# Altium footprint library mini.PcbLib: 3 footprints
Each footprint in its own frame and in the unit in brackets; x right, y up, seen from the top. Pads: shape width x height; smd on the part's side, far side on the other; paste and mask are expansions set on the pad; w line width, h text height; cw(c..) or ccw(c..) is an arc to the next point about the centre after c.
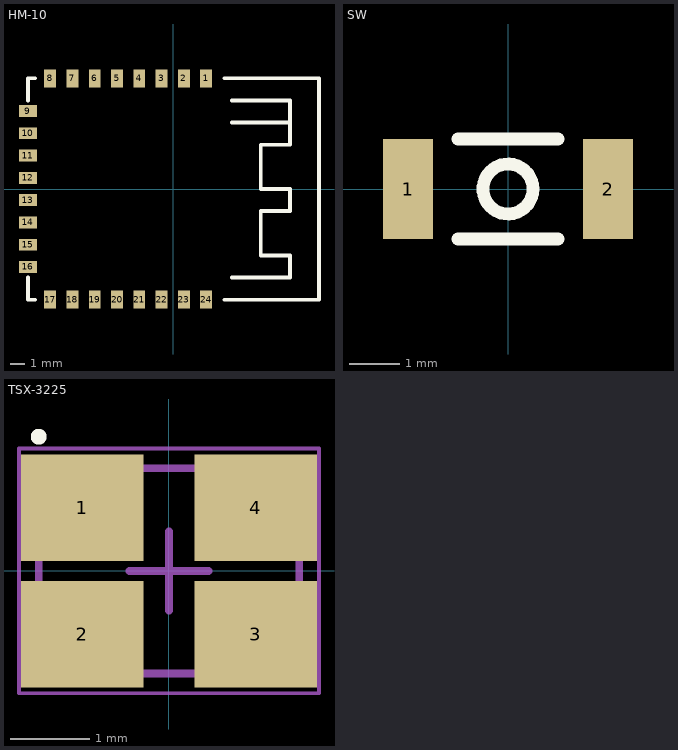
[diagram p0: the footprints below, top view; thin cyan lines are the x and y axes]

## HM-10 [mm] "Bluetooth Low Energy Module"
height 1.75
pads (24):
  rect 0.8x1.2 smd: 1(2.2,7.45) 2(0.7,7.45) 3(-0.8,7.45) 4(-2.3,7.45) 5(-3.8,7.45) 6(-5.3,7.45) 7(-6.8,7.45) 8(-8.3,7.45) 17(-8.3,-7.45) 18(-6.8,-7.45) 19(-5.3,-7.45) 20(-3.8,-7.45) 21(-2.3,-7.45) 22(-0.8,-7.45) 23(0.7,-7.45) 24(2.2,-7.45)
  rect 1.2x0.8 smd: 9(-9.8,5.25) 10(-9.8,3.75) 11(-9.8,2.25) 12(-9.8,0.75) 13(-9.8,-0.75) 14(-9.8,-2.25) 15(-9.8,-3.75) 16(-9.8,-5.25)
Top Overlay:
  lines w0.254: -9.8,-5.96 -9.8,-7.45 -9.31,-7.45 ; -9.8,5.96 -9.8,7.45 -9.31,7.45 ; 3.43,-7.45 9.8,-7.45 9.8,7.45 3.43,7.45 ; 3.92,-5.96 7.84,-5.96 7.84,-4.47 5.88,-4.47 5.88,-1.49 7.84,-1.49 7.84,0 5.88,0 5.88,2.98 7.84,2.98 7.84,4.47 ; 3.92,4.47 7.84,4.47 ; 3.92,5.96 7.84,5.96 7.84,4.47

## SW [mm] "SMD Switch for Arduino Mini"
pads (2):
  rect 1x2 smd: 1(-2,0) 2(2,0)
Top Overlay:
  circle w0.254: c0,0 r0.5
  lines w0.254: -1,-1 1,-1 ; -1,1 1,1

## TSX-3225 [mm] "SMD Type Crystal 3.2mm x 2.5 mm"
height 0.7
pads (4):
  rect 1.55x1.35 smd: 1(-1.1,0.8) 2(-1.1,-0.8) 3(1.1,-0.8) 4(1.1,0.8)
Top Overlay:
  circle w0.1: c-1.65,1.7 r0.05
Mechanical 13:
  lines w0.1: -1.65,-1.3 -1.65,1.3 1.65,1.3 1.65,-1.3 -1.65,-1.3
Mechanical 15:
  lines w0.05: -1.9,-1.55 -1.9,1.55 1.9,1.55 1.9,-1.55 -1.9,-1.55
  lines w0.1: -0.5,0 0.5,0 ; 0,-0.5 0,0.5
3D body: height 0.7, standoff 0.7, extent -1.65,-1.3 1.65,1.3